# Altium schematic symbol library TNPW06035K11BEEA.SchLib: 1 symbol
Pins are listed as number, name and electrical type; pins without a type are passive.

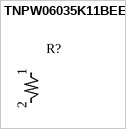
[diagram p0: symbol TNPW06035K11BEEA]

## TNPW06035K11BEEA
designator R?
TNPW0603 5K11 0.1% T-9 ET1 e3; Manufacturer_Name: Vishay; Manufacturer_Part_Number: TNPW06035K11BEEA; Datasheet: https://www.vishay.com/doc?28758
pins: 1, 2